# EAGLE library part ESP32-WROOM-32E__8MB_ (library Development Boards)
WiFi Modules (802.11) Mod 8 MB SPI flash PCB antenna Source: Datasheet <https://www.espressif.com/sites/default/files/documentation/esp32-wroom-32_datasheet_en.pdf>
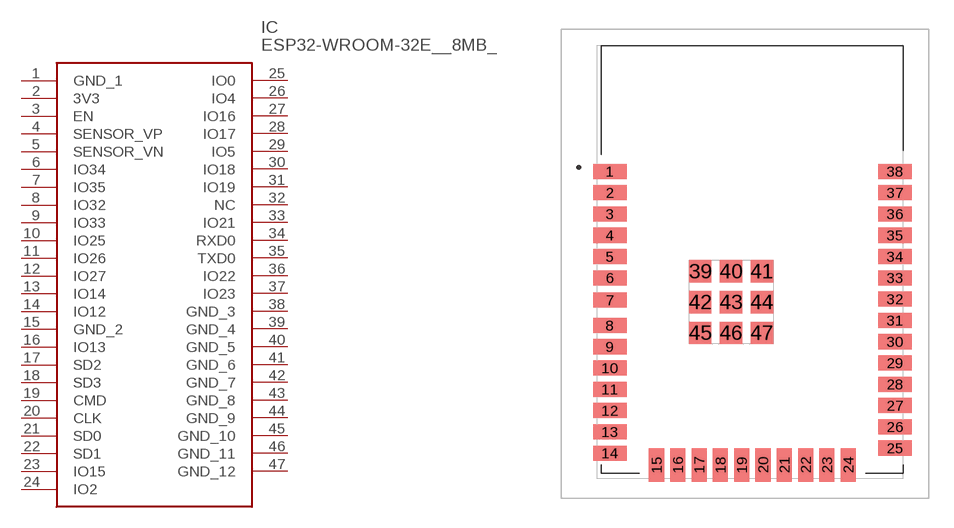
[diagram p11: symbol with the pads of ESP32WROOM32E8MB; footprint ESP32WROOM32E8MB]

Designator prefix IC

## ESP32-WROOM-32E__8MB_ (DESCRIPTION: WiFi Modules (802.11) Mod 8 MB SPI flash PCB antenna; HEIGHT: 3.2mm; MANUFACTURER_NAME: Espressif Systems; MANUFACTURER_PART_NUMBER: ESP32-WROOM-32E (8MB); MOUSER_PART_NUMBER: 356-ESP32WRM32E164PH; MOUSER_PRICE-STOCK: https://www.mouser.co.uk/ProductDetail/Espressif-Systems/ESP32-WROOM-32E-8MB?qs=GBLSl2AkirsjshqvD9slKA%3D%3D)  [ESP32WROOM32E8MB]
1  GND_1
2  3V3
3  EN
4  SENSOR_VP
5  SENSOR_VN
6  IO34
7  IO35
8  IO32
9  IO33
10  IO25
11  IO26
12  IO27
13  IO14
14  IO12
15  GND_2
16  IO13
17  SD2
18  SD3
19  CMD
20  CLK
21  SD0
22  SD1
23  IO15
24  IO2
25  IO0
26  IO4
27  IO16
28  IO17
29  IO5
30  IO18
31  IO19
32  NC  nc
33  IO21
34  RXD0
35  TXD0
36  IO22
37  IO23
38  GND_3
39  GND_4
40  GND_5
41  GND_6
42  GND_7
43  GND_8
44  GND_9
45  GND_10
46  GND_11
47  GND_12

## Footprint ESP32WROOM32E8MB (pad centres in mm)
ESP32-WROOM-32E (8MB)-3
smd 2 x 0.9: 1 -7.23,7.8; 2 -7.23,6.53; 3 -7.23,5.26; 4 -7.23,3.99; 5 -7.23,2.72; 6 -7.23,1.45; 7 -7.23,0.12; 8 -7.23,-1.39; 9 -7.23,-2.66; 10 -7.23,-3.93; 11 -7.23,-5.2; 12 -7.23,-6.47; 13 -7.23,-7.74; 14 -7.23,-9.01; 25 9.77,-8.71; 26 9.77,-7.44; 27 9.77,-6.17; 28 9.77,-4.9; 29 9.77,-3.63; 30 9.77,-2.36; 31 9.77,-1.09; 32 9.77,0.18; 33 9.77,1.45; 34 9.77,2.72; 35 9.77,3.99; 36 9.77,5.26; 37 9.77,6.53; 38 9.77,7.8
smd 0.9 x 2: 15 -4.445,-9.71; 16 -3.175,-9.71; 17 -1.905,-9.71; 18 -0.635,-9.71; 19 0.635,-9.71; 20 1.905,-9.71; 21 3.175,-9.71; 22 4.445,-9.71; 23 5.715,-9.71; 24 6.985,-9.71
smd 1.33 x 1.33: 39 -1.835,1.835; 40 0,1.835; 41 1.835,1.835; 42 -1.835,0; 43 0,0; 44 1.835,0; 45 -1.835,-1.835; 46 0,-1.835; 47 1.835,-1.835